# EAGLE library part BQ34Z100PWR-R2 (library BQ34Z100PWR-R2)
Battery Management Multi-chemistry Impedance Track stand-alone fuel gauge Source: Datasheet <https://www.arrow.com/en/products/bq34z100pwr-r2/texas-instruments?region=nac>
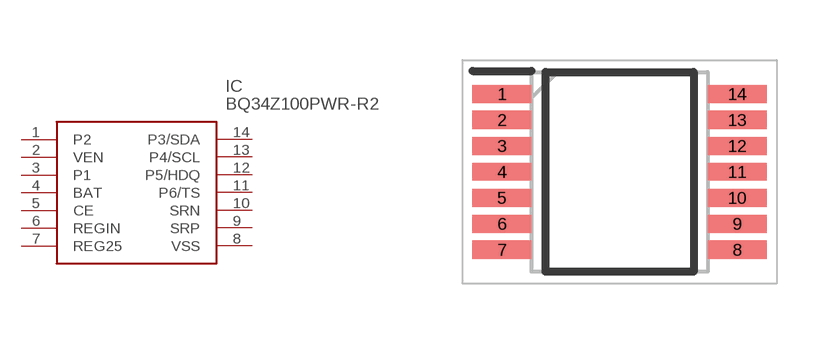
[diagram p0: symbol with the pads of SOP65P640X120-14N; footprint SOP65P640X120-14N]

Designator prefix IC

## BQ34Z100PWR-R2 (Description: Battery Management Multi-chemistry Impedance Track stand-alone fuel gauge; Height: 1.2mm; Manufacturer_Name: Texas Instruments; Manufacturer_Part_Number: BQ34Z100PWR-R2; Mouser_Part_Number: 595-BQ34Z100PWR-R2; Mouser_Price-Stock: https://www.mouser.co.uk/ProductDetail/Texas-Instruments/BQ34Z100PWR-R2?qs=rQFj71Wb1eWspkgmxcmVcA%3D%3D)  [SOP65P640X120-14N]
1  P2
2  VEN
3  P1
4  BAT
5  CE
6  REGIN
7  REG25
8  VSS
9  SRP
10  SRN
11  P6/TS
12  P5/HDQ
13  P4/SCL
14  P3/SDA

## Footprint SOP65P640X120-14N (pad centres in mm)
PW
smd 1.475 x 0.45: 1 -2.938,1.95; 2 -2.938,1.3; 3 -2.938,0.65; 4 -2.938,0; 5 -2.938,-0.65; 6 -2.938,-1.3; 7 -2.938,-1.95; 8 2.938,-1.95; 9 2.938,-1.3; 10 2.938,-0.65; 11 2.938,0; 12 2.938,0.65; 13 2.938,1.3; 14 2.938,1.95